# Altium schematic symbol library Schlib1.SchLib: 13 symbols
Pins are listed as number, name and electrical type; pins without a type are passive.

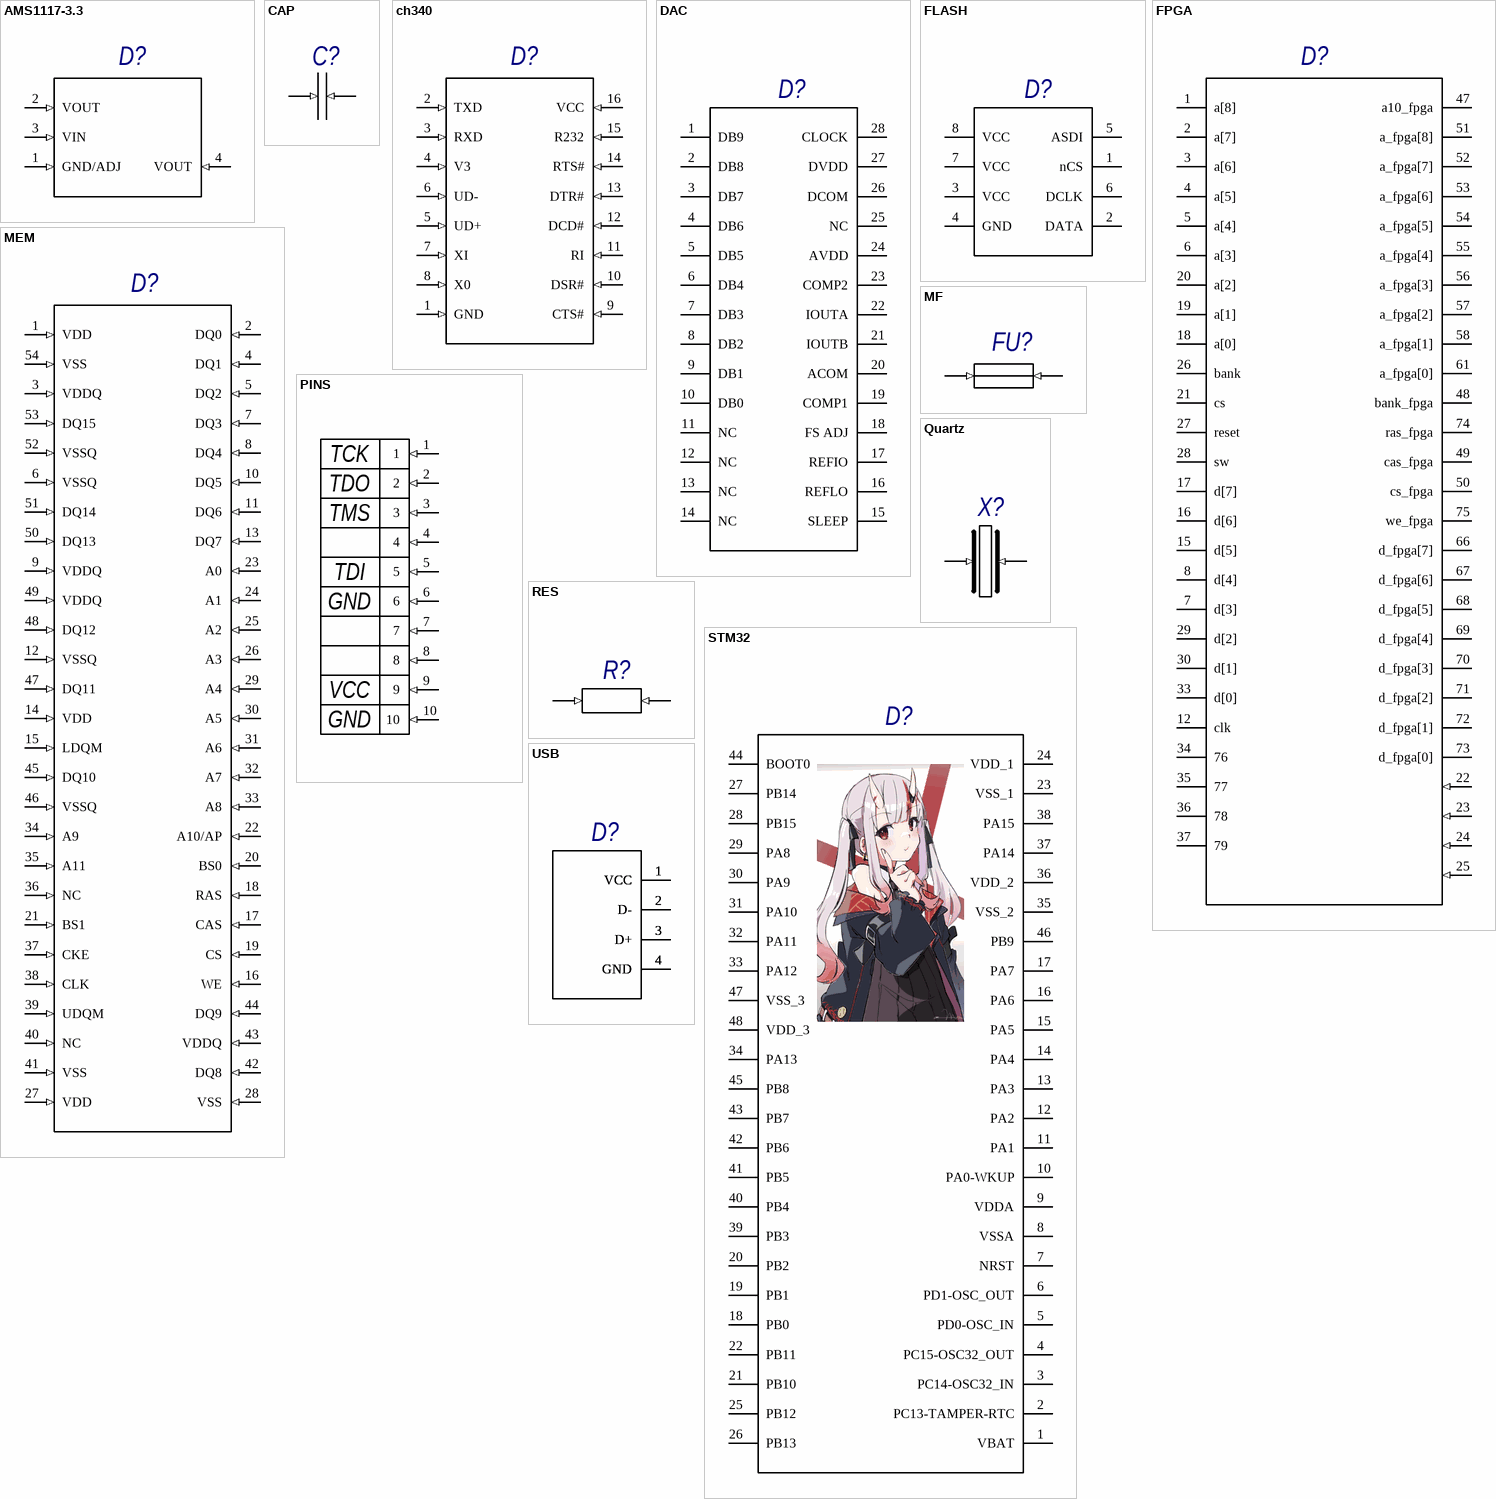
[diagram p0: symbols AMS1117-3.3 to USB]

## AMS1117-3.3
designator D?, comment Обозначение при заказе  (value not drawn)
Описание свойств компонента; Model: AMS1117-3.3; Component: Стабилизатор; Link: https://www.chipdip.ru/product/ams1117-3.3; ComponentLink1Description: New link; ComponentLink1URL: https://www.chipdip.ru/product/ams1117-3.3
footprint AMS1117-3.3 GENERATED (SOT223, 4-Leads, Body 6,50x7,00mm (avg), Pitch 2,29mm, IPC Medium Density)
pins: 1 GND/ADJ (in) "Информационный вход Х6", 2 VOUT (in) "Информационный вход Х6", 3 VIN (in) "Информационный вход Х6", 4 VOUT (in) "Информационный вход Х6"

## CAP
designator C?, comment Обозначение при заказе  (value not drawn)
Описание свойств компонента
footprint CAP 0603_1608 (Chip Capacitor, 2-Leads, Body 1.60x0.80mm, IPC Medium Density)
pins: 1 (in) "Информационный вход Х6", 2 (in) "Информационный вход Х6"

## ch340
designator D?, comment Обозначение при заказе  (value not drawn)
Описание свойств компонента; Component: UART INTERFACE; Model: CH340G; Link: https://cdn.sparkfun.com/datasheets/Dev/Arduino/Other/CH340DS1.PDF; ComponentLink1Description: New link; ComponentLink1URL: https://cdn.sparkfun.com/datasheets/Dev/Arduino/Other/CH340DS1.PDF
footprint CH340G GENERATED
pins: 1 GND (in) "Информационный вход Х6", 2 TXD (in) "Информационный вход Х6", 3 RXD (in) "Информационный вход Х6", 4 V3 (in) "Информационный вход Х6", 5 UD+ (in) "Информационный вход Х6", 6 UD- (in) "Информационный вход Х6", 7 XI (in) "Информационный вход Х6", 8 X0 (in) "Информационный вход Х6", 9 CTS# (in) "Информационный вход Х6", 10 DSR# (in) "Информационный вход Х6", 11 RI (in) "Информационный вход Х6", 12 DCD# (in) "Информационный вход Х6", 13 DTR# (in) "Информационный вход Х6", 14 RTS# (in) "Информационный вход Х6", 15 R232 (in) "Информационный вход Х6", 16 VCC (in) "Информационный вход Х6"

## DAC
designator D?, comment Обозначение при заказе  (value not drawn)
Описание свойств компонента; Component: DAC; Model: AD9760ARUZ50; Link: https://www.chipdip.ru/product/ad9760aruz50; ComponentLink1Description: New link; ComponentLink1URL: https://www.chipdip.ru/product/ad9760aruz50
pins: 1 DB9, 2 DB8, 3 DB7, 4 DB6, 5 DB5, 6 DB4, 7 DB3, 8 DB2, 9 DB1, 10 DB0, 11 NC, 12 NC, 13 NC, 14 NC, 15 SLEEP, 16 REFLO, 17 REFIO, 18 FS ADJ, 19 COMP1, 20 ACOM, 21 IOUTB, 22 IOUTA, 23 COMP2, 24 AVDD, 25 NC, 26 DCOM, 27 DVDD, 28 CLOCK

## FLASH
designator D?, comment Обозначение при заказе  (value not drawn)
Описание свойств компонента; Component: FLASH Memory; Model: EPCS16SI8N; Link: https://www.chipdip.ru/product/epcs16si8n; ComponentLink1Description: New link; ComponentLink1URL: https://www.chipdip.ru/product/epcs16si8n
footprint FLASH (SOIC, 8-Leads, Body 4,90x3,90mm, Pitch 1,27mm, IPC Medium Density)
pins: 1 nCS, 2 DATA, 3 VCC, 4 GND, 5 ASDI, 6 DCLK, 7 VCC, 8 VCC

## FPGA
designator D?, comment Обозначение при заказе  (value not drawn)
Описание свойств компонента; Component: FPGA; Model: Altera II EPM240T100C3; Link: https://eu.mouser.com/ProductDetail/Intel-Altera/EPM240T100C3?qs=jblrfmjbeiFZviQiVyzREw%3D%3D; ComponentLink1Description: New link; ComponentLink1URL: https://eu.mouser.com/ProductDetail/Intel-Altera/EPM240T100C3?qs=jblrfmjbeiFZviQiVyzREw%3D%3D
footprint QFP50P1600X1600X120-100N
pins: 1 a[8], 2 a[7], 3 a[6], 4 a[5], 5 a[4], 6 a[3], 7 d[3], 8 d[4], 12 clk, 15 d[5], 16 d[6], 17 d[7], 18 a[0], 19 a[1], 20 a[2], 21 cs, 22 76 (in) "Информационный вход Х6", 23 77 (in) "Информационный вход Х6", 24 78 (in) "Информационный вход Х6", 25 79 (in) "Информационный вход Х6", 26 bank, 27 reset, 28 sw, 29 d[2], 30 d[1], 33 d[0], 34 76, 35 77, 36 78, 37 79, 47 a10_fpga, 48 bank_fpga, 49 cas_fpga, 50 cs_fpga, 51 a_fpga[8], 52 a_fpga[7], 53 a_fpga[6], 54 a_fpga[5], 55 a_fpga[4], 56 a_fpga[3], 57 a_fpga[2], 58 a_fpga[1], 61 a_fpga[0], 66 d_fpga[7], 67 d_fpga[6], 68 d_fpga[5], 69 d_fpga[4], 70 d_fpga[3], 71 d_fpga[2], 72 d_fpga[1], 73 d_fpga[0], 74 ras_fpga, 75 we_fpga

## MEM
designator D?, comment Обозначение при заказе  (value not drawn)
Описание свойств компонента; Component: Memory; Model: W9812G6KH-6/TRAY; ComponentLink1Description: Link; ComponentLink1URL: https://www.chipdip.ru/product/w9812g6kh-6-tray; Link: https://www.chipdip.ru/product/w9812g6kh-6-tray
footprint SOP127P600-8N
pins: 1 VDD (in) "Информационный вход Х6", 2 DQ0 (in) "Информационный вход Х6", 3 VDDQ (in) "Информационный вход Х6", 4 DQ1 (in) "Информационный вход Х6", 5 DQ2 (in) "Информационный вход Х6", 6 VSSQ (in) "Информационный вход Х6", 7 DQ3 (in) "Информационный вход Х6", 8 DQ4 (in) "Информационный вход Х6", 9 VDDQ (in) "Информационный вход Х6", 10 DQ5 (in) "Информационный вход Х6", 11 DQ6 (in) "Информационный вход Х6", 12 VSSQ (in) "Информационный вход Х6", 13 DQ7 (in) "Информационный вход Х6", 14 VDD (in) "Информационный вход Х6", 15 LDQM (in) "Информационный вход Х6", 16 WE (in) "Информационный вход Х6", 17 CAS (in) "Информационный вход Х6", 18 RAS (in) "Информационный вход Х6", 19 CS (in) "Информационный вход Х6", 20 BS0 (in) "Информационный вход Х6", 21 BS1 (in) "Информационный вход Х6", 22 A10/AP (in) "Информационный вход Х6", 23 A0 (in) "Информационный вход Х6", 24 A1 (in) "Информационный вход Х6", 25 A2 (in) "Информационный вход Х6", 26 A3 (in) "Информационный вход Х6", 27 VDD (in) "Информационный вход Х6", 28 VSS (in) "Информационный вход Х6", 29 A4 (in) "Информационный вход Х6", 30 A5 (in) "Информационный вход Х6", 31 A6 (in) "Информационный вход Х6", 32 A7 (in) "Информационный вход Х6", 33 A8 (in) "Информационный вход Х6", 34 A9 (in) "Информационный вход Х6", 35 A11 (in) "Информационный вход Х6", 36 NC (in) "Информационный вход Х6", 37 CKE (in) "Информационный вход Х6", 38 CLK (in) "Информационный вход Х6", 39 UDQM (in) "Информационный вход Х6", 40 NC (in) "Информационный вход Х6", 41 VSS (in) "Информационный вход Х6", 42 DQ8 (in) "Информационный вход Х6", 43 VDDQ (in) "Информационный вход Х6", 44 DQ9 (in) "Информационный вход Х6", 45 DQ10 (in) "Информационный вход Х6", 46 VSSQ (in) "Информационный вход Х6", 47 DQ11 (in) "Информационный вход Х6", 48 DQ12 (in) "Информационный вход Х6", 49 VDDQ (in) "Информационный вход Х6", 50 DQ13 (in) "Информационный вход Х6", 51 DQ14 (in) "Информационный вход Х6", 52 VSSQ (in) "Информационный вход Х6", 53 DQ15 (in) "Информационный вход Х6", 54 VSS (in) "Информационный вход Х6"

## MF
designator FU?, comment Обозначение при заказе  (value not drawn)
Описание свойств компонента
footprint FUSE
pins: 1 (in) "Информационный вход Х6", 2 (in) "Информационный вход Х6"

## PINS
designator X?, comment Обозначение при заказе  (value not drawn)
Описание свойств компонента
footprint PINS
pins: 1 (in) "Информационный вход Х6", 2 (in) "Информационный вход Х6", 3 (in) "Информационный вход Х6", 4 (in) "Информационный вход Х6", 5 (in) "Информационный вход Х6", 6 (in) "Информационный вход Х6", 7 (in) "Информационный вход Х6", 8 (in) "Информационный вход Х6", 9 (in) "Информационный вход Х6", 10 (in) "Информационный вход Х6"
text: TCK; TDO; TMS; TDI; GND; VCC

## Quartz
designator X?, comment Обозначение при заказе  (value not drawn)
Описание свойств компонента
footprint QUARTZ TEMPORARY
pins: 1 (in) "Информационный вход Х6", 2 (in) "Информационный вход Х6"

## RES
designator R?, comment Обозначение при заказе  (value not drawn)
Описание свойств компонента
footprint R_0805_T0.4 (Чип-резисторы постоянные непроволочные общего применения Р1-8В)
pins: 1 (in) "Информационный вход Х6", 2 (in) "Информационный вход Х6"

## STM32
designator D?, comment Обозначение при заказе  (value not drawn)
Описание свойств компонента; Component: Controller; Model: STM32F446RET6; ComponentLink1Description: Link; ComponentLink1URL: https://www.chipdip.ru/product/stm32f446ret6; Link: https://www.chipdip.ru/product/stm32f446ret6
footprint LQFP-48 (TSQFP, 48-Leads, Body 9,0x9,0mm (max), Pitch 0,50mm, IPC Medium Density)
pins: 1 VBAT, 2 PC13-TAMPER-RTC, 3 PC14-OSC32_IN, 4 PC15-OSC32_OUT, 5 PD0-OSC_IN, 6 PD1-OSC_OUT, 7 NRST, 8 VSSA, 9 VDDA, 10 PA0-WKUP, 11 PA1, 12 PA2, 13 PA3, 14 PA4, 15 PA5, 16 PA6, 17 PA7, 18 PB0, 19 PB1, 20 PB2, 21 PB10, 22 PB11, 23 VSS_1, 24 VDD_1, 25 PB12, 26 PB13, 27 PB14, 28 PB15, 29 PA8, 30 PA9, 31 PA10, 32 PA11, 33 PA12, 34 PA13, 35 VSS_2, 36 VDD_2, 37 PA14, 38 PA15, 39 PB3, 40 PB4, 41 PB5, 42 PB6, 43 PB7, 44 BOOT0, 45 PB8, 46 PB9, 47 VSS_3, 48 VDD_3

## USB
designator D?  (value not drawn)
Model: Unknown; Component: USB; ComponentLink1Description: Link; ComponentLink1URL: No link; Link: No link
footprint USB
pins: 1 VCC, 1 VCC, 1 VCC, 1 VCC, 2 D-, 2 D-, 2 D-, 2 D-, 3 D+, 3 D+, 3 D+, 3 D+, 4 GND, 4 GND, 4 GND, 4 GND